# Altium schematic symbol library Opto.SchLib: 3 symbols
Pins are listed as number, name and electrical type; pins without a type are passive.

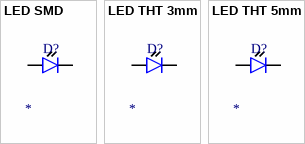
[diagram p0: symbols LED SMD to LED THT 5mm]

## LED SMD
designator D?, comment LED  (value not drawn)
SMD LED Diode 0805 Package; Forward voltage: *; Package Type: SMD; Type: LED; Color: *
footprint LED SMD 0805 (SMD LED diode 0805 package)
pins: 1, 2

## LED THT 3mm
designator D?, comment LED  (value not drawn)
THT LED Diode 3 mm Diameter; Forward voltage: *; Package Type: THT; Type: LED; Color: *
footprint LED THT 3 mm (THT LED diode 3 mm diameter)
footprint LED THT 3 mm raised (THT LED diode 3 mm diameter)
pins: 1, 2

## LED THT 5mm
designator D?, comment LED  (value not drawn)
THT LED Diode 5 mm Diameter; Forward voltage: *; Package Type: THT; Type: LED; Color: *
footprint LED THT 5 mm (THT LED diode 5 mm diameter)
footprint LED THT 5 mm raised (THT LED diode 5 mm diameter raised for panel mounting)
pins: 1, 2